# EAGLE library part PAM8406 (library ICs)
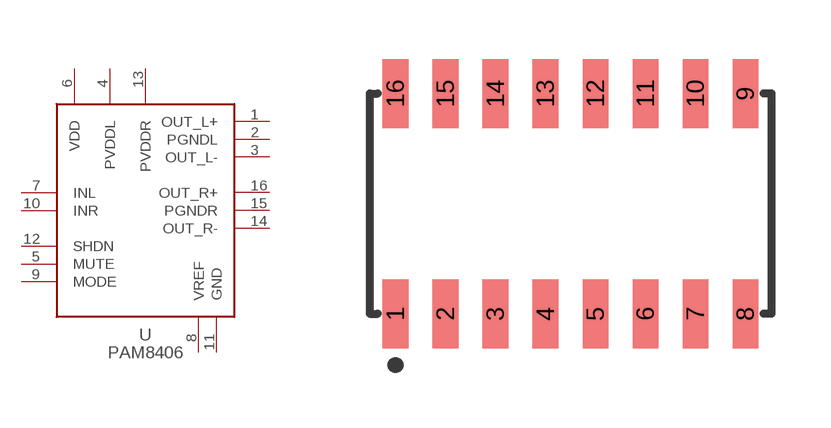
[diagram p18: symbol with the pads of SOP-16; footprint SOP-16]

Designator prefix -

## PAM8406 (MFG: Diodes; PN: PAM8406DR; VALUE: PAM8406)  [SOP-16]
1  OUT_L+  out
2  PGNDL
3  OUT_L-  out
4  PVDDL
5  MUTE  in
6  VDD
7  INL  in
8  VREF  out
9  MODE  in
10  INR  in
11  GND
12  SHDN  in
13  PVDDR
14  OUT_R-  out
15  PGNDR
16  OUT_R+  out

## Footprint SOP-16 (pad centres in mm)
SMALL OUTLINE PACKAGE 16
smd 0.65 x 1.75: 1 -4.45,-2.8; 2 -3.18,-2.8; 3 -1.91,-2.8; 4 -0.64,-2.8; 5 0.63,-2.8; 6 1.9,-2.8; 7 3.17,-2.8; 8 4.44,-2.8; 9 4.44,2.8; 10 3.17,2.8; 11 1.9,2.8; 12 0.63,2.8; 13 -0.64,2.8; 14 -1.91,2.8; 15 -3.18,2.8; 16 -4.45,2.8